# EAGLE library part ADP1653 (library GTA04b7)
Compact, High Efficiency, High Power, Flash/Torch LED Driver with Dual Interface
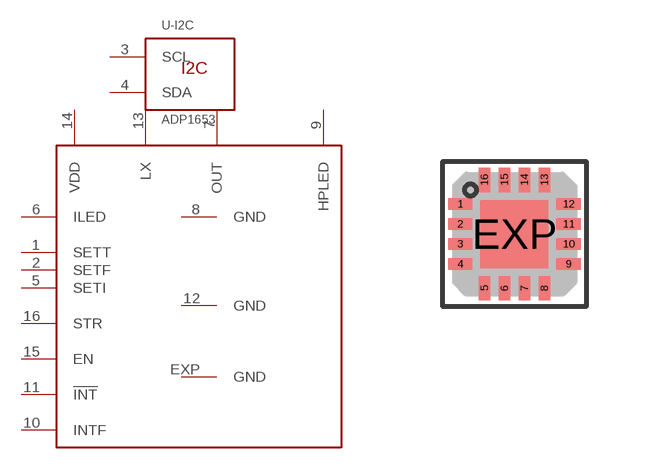
[diagram p0: symbol with the pads of QFN-16+E-0.5; footprint QFN-16+E-0.5]

Designator prefix -; gates -CTL+DC/DC=ADP1653 -I2C=IF-I2C EXP=GND-PIN GND=GND-PIN PGND=GND-PIN

## ADP1653  [QFN-16+E-0.5]
1  -CTL+DC/DC:SETT  pas
2  -CTL+DC/DC:SETF  pas
3  -I2C:SCL
4  -I2C:SDA
5  -CTL+DC/DC:SETI  pas
6  -CTL+DC/DC:ILED  oc
7  -CTL+DC/DC:OUT  pas
8  GND:GND  pwr
9  -CTL+DC/DC:HPLED  pas
10  -CTL+DC/DC:INTF  in
11  -CTL+DC/DC:!INT  oc
12  PGND:GND  pwr
13  -CTL+DC/DC:LX  pas
14  -CTL+DC/DC:VDD  pwr
15  -CTL+DC/DC:EN  in
16  -CTL+DC/DC:STR  in
EXP  EXP:GND  pwr

## Footprint QFN-16+E-0.5 (pad centres in mm)
smd 0.61 x 0.28: 1 -1.355,0.75; 2 -1.355,0.25; 3 -1.355,-0.25; 4 -1.355,-0.75; 9 1.355,-0.75; 10 1.355,-0.25; 11 1.355,0.25; 12 1.355,0.75
smd 0.28 x 0.61: 5 -0.75,-1.355; 6 -0.25,-1.355; 7 0.25,-1.355; 8 0.75,-1.355; 13 0.75,1.355; 14 0.25,1.355; 15 -0.25,1.355; 16 -0.75,1.355
smd 1.7 x 1.7: EXP 0,0